# Altium footprint library IFA - 2.4GHz.PcbLib: 1 footprints
Each footprint in its own frame and in the unit in brackets; x right, y up, seen from the top. Pads: shape width x height; smd on the part's side, far side on the other; paste and mask are expansions set on the pad; w line width, h text height; cw(c..) or ccw(c..) is an arc to the next point about the centre after c.
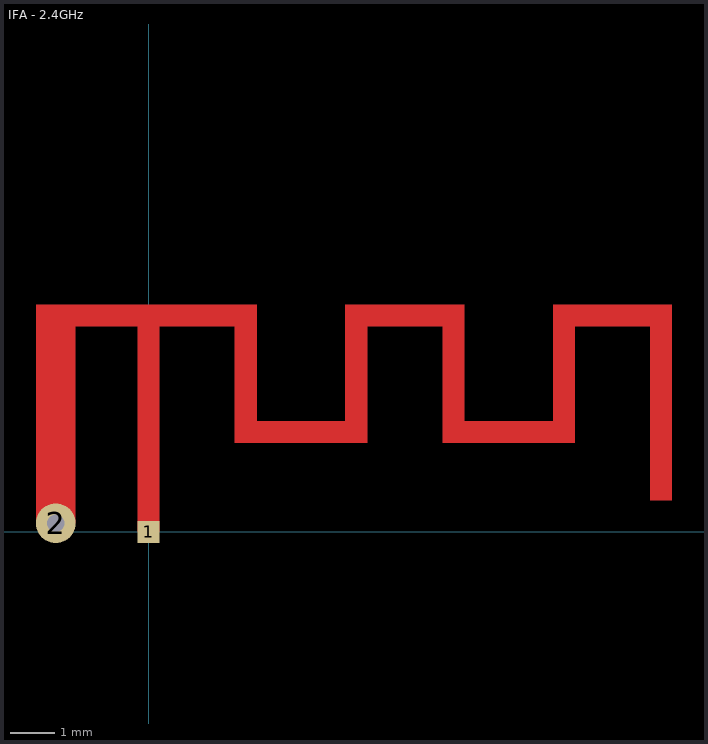
[diagram p0: the footprint, top view; thin cyan lines are the x and y axes]

## IFA - 2.4GHz [mm]
pads (2):
  rect 0.5x0.5 smd: 1(0,0)
  round 0.9 hole 0.4: 2(-2.1,0.195)
Top Layer:
  region: 0.25,4.647 -0.25,4.647 -0.25,0 0.25,0
  region: -1.65,4.65 -2.55,4.65 -2.55,0.195 -1.65,0.195
  region: 2.45,4.65 2.45,5.15 -2.55,5.15 -2.55,4.65
  region: 2.45,4.65 1.95,4.65 1.95,2.01 2.45,2.01
  region: 2.45,2.51 2.45,2.01 4.45,2.01 4.45,2.51
  region: 4.95,4.65 4.45,4.65 4.45,2.01 4.95,2.01
  region: 7.15,4.65 7.15,5.15 4.45,5.15 4.45,4.65
  region: 7.15,2.51 7.15,2.01 9.15,2.01 9.15,2.51
  region: 7.15,4.65 6.65,4.65 6.65,2.01 7.15,2.01
  region: 9.65,4.65 9.15,4.65 9.15,2.01 9.65,2.01
  region: 11.85,4.65 11.85,5.15 9.15,5.15 9.15,4.65
  rectangle: 11.35,0.71 11.85,4.65